# Altium footprint library Comparator.PcbLib: 5 footprints
Each footprint in its own frame and in the unit in brackets; x right, y up, seen from the top. Pads: shape width x height; smd on the part's side, far side on the other; paste and mask are expansions set on the pad; w line width, h text height; cw(c..) or ccw(c..) is an arc to the next point about the centre after c.
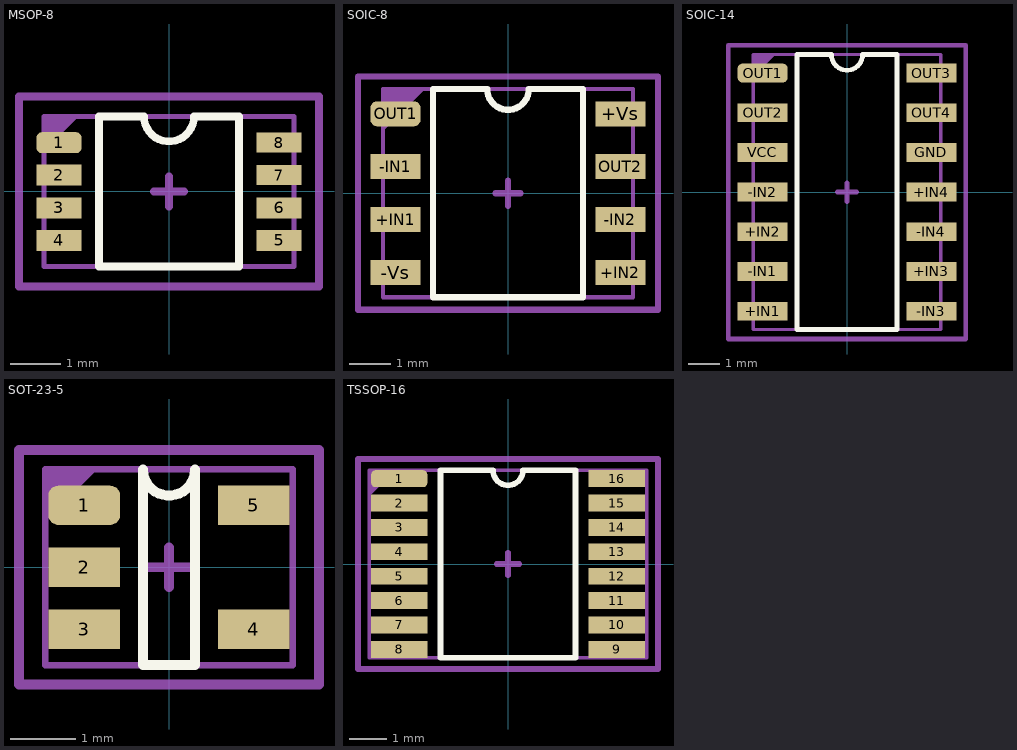
[diagram p0: the footprints below, top view; thin cyan lines are the x and y axes]

## MSOP-8 [mm]
pads (8):
  rrect50% 0.9x0.42 smd: 1(-2.2,0.975)
  rect 0.9x0.42 smd: 2(-2.2,0.325) 3(-2.2,-0.325) 4(-2.2,-0.975) 5(2.2,-0.975) 6(2.2,-0.325)
  rect 0.9x0.4 smd: 7(2.2,0.325) 8(2.2,0.975)
Top Overlay:
  lines w0.153: -1.4,-1.5 -1.4,1.5 -0.5,1.5 ccw(c0,1.5) 0.5,1.5 1.4,1.5 1.4,-1.5 -1.4,-1.5
Top Assembly:
  region: -2.5,1.5 -1.8,1.5 -2.5,0.8
  lines w0.1: -2.5,-1.5 -2.5,1.5 2.5,1.5 2.5,-1.5 -2.5,-1.5
  text "'.Designator'" at -4.532,-0.333 h0.8
Top Courtyard:
  lines w0.153: -0.3,0 0.3,0 ; 0,-0.3 0,0.3 ; -3,-1.9 3,-1.9 3,1.9 -3,1.9 -3,-1.9
3D body "MSOP-8.step": height 1.01, standoff 0, extent -2.46,-1.525 2.461,1.525

## SOIC-8 [mm]
pads (8):
  rect 1.2x0.6 smd: +IN1(-2.7,-0.635) +IN2(2.7,-1.905) +Vs(2.7,1.905) -IN1(-2.7,0.635) -IN2(2.7,-0.635) -Vs(-2.7,-1.905) OUT2(2.7,0.635)
  rrect50% 1.2x0.6 smd: OUT1(-2.7,1.905)
Top Overlay:
  lines w0.153: -1.8,-2.5 -1.8,2.5 -0.5,2.5 ccw(c0,2.5) 0.5,2.5 1.8,2.5 1.8,-2.5 -1.8,-2.5
Top Assembly:
  region: -3,2.5 -2,2.5 -3,1.5
  lines w0.1: -3,-2.5 3,-2.5 3,2.5 -3,2.5 -3,-2.5
  text "'.Designator'" at -4.532,-0.333 h0.8
Top Courtyard:
  lines w0.153: -0.3,0 0.3,0 ; 0,-0.3 0,0.3 ; -3.6,-2.8 -3.6,2.8 3.6,2.8 3.6,-2.8 -3.6,-2.8
3D body "so8-3.step": height 1.7, standoff 0, extent -3,-2.45 3,2.45

## SOIC-14 [mm]
pads (14):
  rect 1.6x0.6 smd: +IN1(-2.7,-3.81) +IN2(-2.7,-1.27) +IN3(2.7,-2.54) +IN4(2.7,0) -IN1(-2.7,-2.54) -IN2(-2.7,0) -IN3(2.7,-3.81) -IN4(2.7,-1.27) GND(2.7,1.27) OUT2(-2.7,2.54) OUT3(2.7,3.81) OUT4(2.7,2.54) VCC(-2.7,1.27)
  rrect50% 1.6x0.6 smd: OUT1(-2.7,3.81)
Top Overlay:
  lines w0.153: -1.6,-4.4 -1.6,4.4 -0.5,4.4 ccw(c0,4.4) 0.5,4.4 1.6,4.4 1.6,-4.4 -1.6,-4.4
Top Assembly:
  region: -3,4.4 -2.3,4.4 -3,3.7
  lines w0.1: -3,-4.4 -3,4.4 3,4.4 3,-4.4 -3,-4.4
  text "'.Designator'" at -0.333,4.532 h0.8
Top Courtyard:
  lines w0.153: -0.3,0 0.3,0 ; 0,-0.3 0,0.3 ; -3.8,-4.7 -3.8,4.7 3.8,4.7 3.8,-4.7 -3.8,-4.7
3D body "soic14-1.step": height 1.7, standoff 0, extent -3,-4.4 3,4.4

## SOT-23-5 [mm]
pads (5):
  rrect50% 1.1x0.6 smd mask+0.05: 1(-1.3,0.95)
  rect 1.1x0.6 smd mask+0.05: 2(-1.3,0) 3(-1.3,-0.95) 4(1.3,-0.95) 5(1.3,0.95)
Top Overlay:
  lines w0.153: -0.4,-1.5 0.4,-1.5 0.4,1.5 cw(c0,1.5) -0.4,1.5 -0.4,-1.5
Top Assembly:
  region: -1.9,1.5 -1.9,0.7 -1.1,1.5
  lines w0.1: -1.9,-1.5 -1.9,1.5 1.9,1.5 1.9,-1.5 -1.9,-1.5
  text "'.Designator'" at -4.532,-0.333 h0.8
Top Courtyard:
  lines w0.153: -0.3,0 0.3,0 ; 0,-0.3 0,0.3 ; -2.3,-1.8 2.3,-1.8 2.3,1.8 -2.3,1.8 -2.3,-1.8
3D body "CircuitWorks-SOT-23-5.step": height 1.1, standoff 0, extent -1.25,-1.5 1.25,1.5

## TSSOP-16 [mm]
pads (16):
  rrect50% 1.5x0.45 smd mask+0.05: 1(-2.9,2.275)
  rect 1.5x0.45 smd mask+0.05: 2(-2.9,1.625) 3(-2.9,0.975) 4(-2.9,0.325) 5(-2.9,-0.325) 6(-2.9,-0.975) 7(-2.9,-1.625) 8(-2.9,-2.275) 9(2.9,-2.275) 10(2.9,-1.625) 11(2.9,-0.975) 12(2.9,-0.325) 13(2.9,0.325) 14(2.9,0.975) 15(2.9,1.625) 16(2.9,2.275)
Top Overlay:
  lines w0.153: -1.8,-2.5 1.8,-2.5 1.8,2.5 0.4,2.5 cw(c0,2.5) -0.4,2.5 -1.8,2.5 -1.8,-2.5
Top Assembly:
  region: -3.7,2.5 -3,2.5 -3.7,1.8
  lines w0.1: -3.7,-2.5 -3.7,2.5 3.7,2.5 3.7,-2.5 -3.7,-2.5
  text "'.Designator'" at -4.532,-0.333 h0.8
Top Courtyard:
  lines w0.153: -0.3,0 0.3,0 ; 0,-0.3 0,0.3 ; -4,-2.8 4,-2.8 4,2.8 -4,2.8 -4,-2.8
3D body "TSSOP-16-1.step": height 1.1, standoff 0, extent -3.2,-2.5 3.2,2.5